# Altium footprint library CoinCellHolder.PcbLib: 1 footprints
Each footprint in its own frame and in the unit in brackets; x right, y up, seen from the top. Pads: shape width x height; smd on the part's side, far side on the other; paste and mask are expansions set on the pad; w line width, h text height; cw(c..) or ccw(c..) is an arc to the next point about the centre after c.
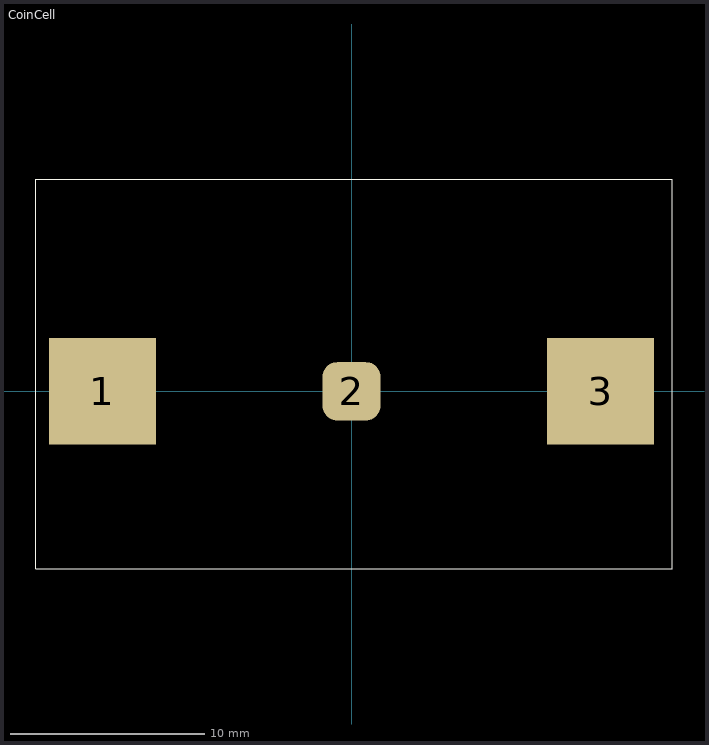
[diagram p0: the footprint, top view; thin cyan lines are the x and y axes]

## CoinCell [mm] "coin cell holder"
pads (3):
  rect 5.5x5.5 smd: 1(-12.827,0) 3(12.827,0)
  rrect50% 3x3 smd: 2(0,0)
Top Overlay:
  lines w0.051: -16.256,-9.144 16.51,-9.144 16.51,10.922 -16.256,10.922 -16.256,-9.144